# Altium footprint library U-DFN1610-2.PcbLib: 1 footprints
Each footprint in its own frame and in the unit in brackets; x right, y up, seen from the top. Pads: shape width x height; smd on the part's side, far side on the other; paste and mask are expansions set on the pad; w line width, h text height; cw(c..) or ccw(c..) is an arc to the next point about the centre after c.
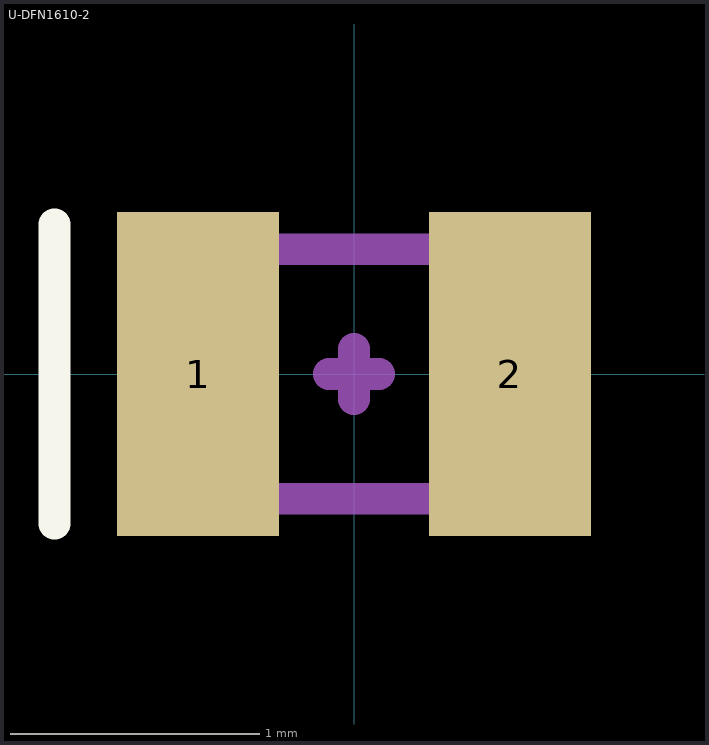
[diagram p0: the footprint, top view; thin cyan lines are the x and y axes]

## U-DFN1610-2 [mm]
height 0.55
pads (2):
  rect 0.65x1.3 smd mask+0: 1(-0.625,0) 2(0.625,0)
Top Overlay:
  lines w0.127: -1.2,-0.6 -1.2,0.6
Mechanical 13:
  lines w0.127: -0.8,-0.5 -0.8,0.5 0.8,0.5 0.8,-0.5 -0.8,-0.5
Mechanical 15:
  lines w0.127: -0.1,0 0,0 ; 0,-0.1 0,0 ; 0,0.1 0,0 ; 0.1,0 0,0
3D body "DFN1610B-2.stp": height 0.5, standoff 0, extent -0.8,-0.5 0.8,0.5